# Altium schematic symbol library Battery.SchLib: 1 symbol
Pins are listed as number, name and electrical type; pins without a type are passive.

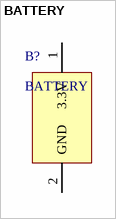
[diagram p0: symbol BATTERY]

## BATTERY
designator B?
footprint PCBComponent_1
pins: 1 3.3V, 2 GND